# EAGLE library part SIM908 (library lib_stankus)
Simcom SIM908 GSM/GPS module
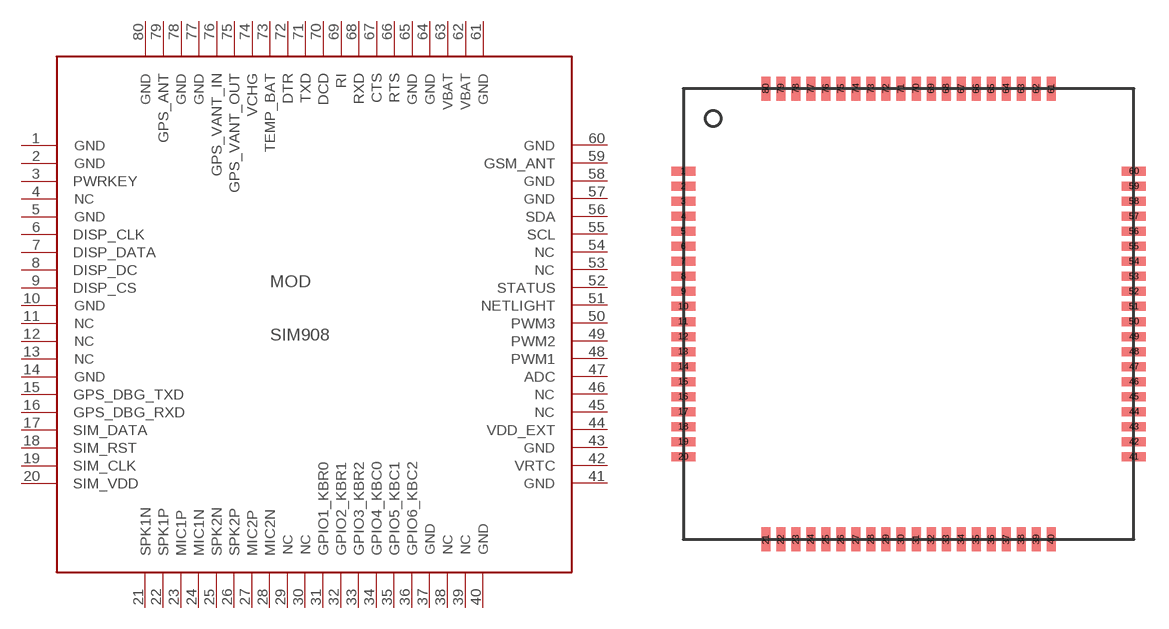
[diagram p81: symbol with the pads of SIM908; footprint SIM908]

Designator prefix MOD

## SIM908  [SIM908]
1  GND  pas
2  GND  pas
3  PWRKEY  pas
4  NC  nc
5  GND  pas
6  DISP_CLK  pas
7  DISP_DATA  pas
8  DISP_DC  pas
9  DISP_CS  pas
10  GND  pas
11  NC  nc
12  NC  nc
13  NC  nc
14  GND  pas
15  GPS_DBG_TXD  pas
16  GPS_DBG_RXD  pas
17  SIM_DATA  pas
18  SIM_RST  pas
19  SIM_CLK  pas
20  SIM_VDD  pas
21  SPK1N  pas
22  SPK1P  pas
23  MIC1P  pas
24  MIC1N  pas
25  SPK2N  pas
26  SPK2P  pas
27  MIC2P  pas
28  MIC2N  pas
29  NC  nc
30  NC  nc
31  GPIO1_KBR0  pas
32  GPIO2_KBR1  pas
33  GPIO3_KBR2  pas
34  GPIO4_KBC0  pas
35  GPIO5_KBC1  pas
36  GPIO6_KBC2  pas
37  GND  pas
38  NC  nc
39  NC  nc
40  GND  pas
41  GND  pas
42  VRTC  pas
43  GND  pas
44  VDD_EXT  pas
45  NC  nc
46  NC  nc
47  ADC  pas
48  PWM1  pas
49  PWM2  pas
50  PWM3  pas
51  NETLIGHT  pas
52  STATUS  pas
53  NC  nc
54  NC  nc
55  SCL  pas
56  SDA  pas
57  GND  pas
58  GND  pas
59  GSM_ANT  pas
60  GND  pas
61  GND  pas
62  VBAT  pas
63  VBAT  pas
64  GND  pas
65  GND  pas
66  RTS  pas
67  CTS  pas
68  RXD  pas
69  RI  pas
70  DCD  pas
71  TXD  pas
72  DTR  pas
73  TEMP_BAT  pas
74  VCHG  pas
75  GPS_VANT_OUT  pas
76  GPS_VANT_IN  pas
77  GND  pas
78  GND  pas
79  GPS_ANT  pas
80  GND  pas

## Footprint SIM908 (pad centres in mm)
SIM908
smd 1.6 x 0.6: 1 -15,9.5; 2 -15,8.5; 3 -15,7.5; 4 -15,6.5; 5 -15,5.5; 6 -15,4.5; 7 -15,3.5; 8 -15,2.5; 9 -15,1.5; 10 -15,0.5; 11 -15,-0.5; 12 -15,-1.5; 13 -15,-2.5; 14 -15,-3.5; 15 -15,-4.5; 16 -15,-5.5; 17 -15,-6.5; 18 -15,-7.5; 19 -15,-8.5; 20 -15,-9.5; 41 15,-9.5; 42 15,-8.5; 43 15,-7.5; 44 15,-6.5; 45 15,-5.5; 46 15,-4.5; 47 15,-3.5; 48 15,-2.5; 49 15,-1.5; 50 15,-0.5; 51 15,0.5; 52 15,1.5; 53 15,2.5; 54 15,3.5; 55 15,4.5; 56 15,5.5; 57 15,6.5; 58 15,7.5; 59 15,8.5; 60 15,9.5
smd 0.6 x 1.6: 21 -9.5,-15; 22 -8.5,-15; 23 -7.5,-15; 24 -6.5,-15; 25 -5.5,-15; 26 -4.5,-15; 27 -3.5,-15; 28 -2.5,-15; 29 -1.5,-15; 30 -0.5,-15; 31 0.5,-15; 32 1.5,-15; 33 2.5,-15; 34 3.5,-15; 35 4.5,-15; 36 5.5,-15; 37 6.5,-15; 38 7.5,-15; 39 8.5,-15; 40 9.5,-15; 61 9.5,15; 62 8.5,15; 63 7.5,15; 64 6.5,15; 65 5.5,15; 66 4.5,15; 67 3.5,15; 68 2.5,15; 69 1.5,15; 70 0.5,15; 71 -0.5,15; 72 -1.5,15; 73 -2.5,15; 74 -3.5,15; 75 -4.5,15; 76 -5.5,15; 77 -6.5,15; 78 -7.5,15; 79 -8.5,15; 80 -9.5,15